# Altium footprint library Lab12.PcbLib: 4 footprints
Each footprint in its own frame and in the unit in brackets; x right, y up, seen from the top. Pads: shape width x height; smd on the part's side, far side on the other; paste and mask are expansions set on the pad; w line width, h text height; cw(c..) or ccw(c..) is an arc to the next point about the centre after c.
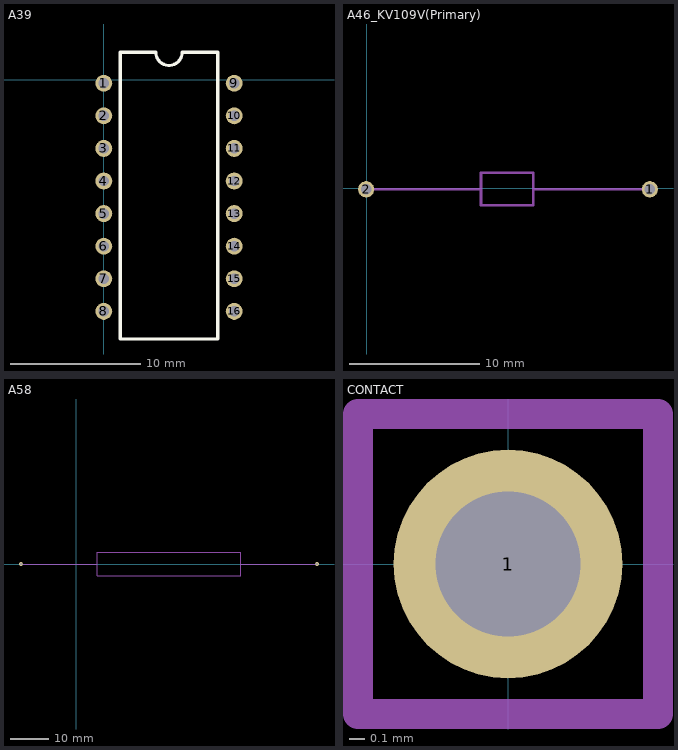
[diagram p0: the footprints below, top view; thin cyan lines are the x and y axes]

## A39 [mm]
pads (16):
  round 1.3 hole 0.8: 1(0,-0.269) 2(0,-2.769) 3(0,-5.269) 4(0,-7.769) 5(0,-10.269) 6(0,-12.769) 7(0,-15.269) 8(0,-17.769) 9(10,-0.269) 10(10,-2.769) 11(10,-5.269) 12(10,-7.769) 13(10,-10.269) 14(10,-12.769) 15(10,-15.269) 16(10,-17.769)
Top Overlay:
  lines w0.254: 1.25,1.983 1.25,-19.89 8.75,-19.89 8.75,2.11 6.016,2.11 cw(c5,2.11) 3.984,2.11 1.25,2.11

## A46_KV109V(Primary) [mm]
pads (2):
  round 1.25 hole 0.8: 1(21.692,-0.075) 2(-0.051,-0.075)
Mechanical 1:
  lines w0.2: -0.051,-0.075 8.75,-0.075 ; 12.75,-0.075 21.692,-0.075 ; 8.75,-1.3 12.75,-1.3 12.75,1.2 8.75,1.2 8.75,-1.3
3D body "A46.step": height 2.39, standoff -3.95, extent -0.167,-1.382 21.743,1.118

## A58 [mm]
pads (2):
  round 1 hole 0.5: 1(-14.25,0) 2(62.25,0)
Mechanical 1:
  lines w0.2: -14.25,0 5.5,0 ; 42.5,0 62.25,0 ; 5.5,-3 5.5,3 42.5,3 42.5,-3 5.5,-3
3D body "A58.step": height 6, standoff -17, extent -14.5,-3 62.5,3

## CONTACT [mil]
pads (1):
  round 60 hole 38: 1(0,0)
Mechanical 1:
  lines w7.87: -39.37,-39.37 39.37,-39.37 39.37,39.37 -39.37,39.37 -39.37,-39.37